# EAGLE library part MODUL_TYPE_A (library isysbus_modulsystem)
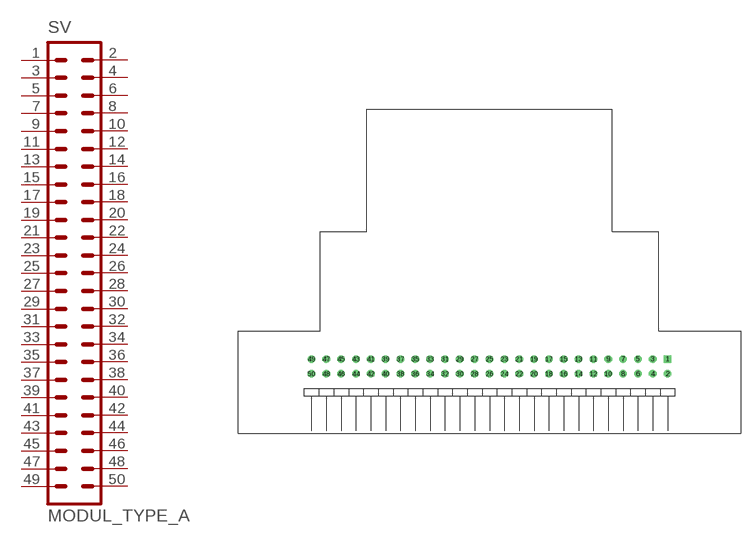
[diagram p1: symbol with the pads of MODUL_TYPE_A; footprint MODUL_TYPE_A]

Designator prefix SV

## MODUL_TYPE_A  [MODUL_TYPE_A]
1  1  pas
2  2  pas
3  3  pas
4  4  pas
5  5  pas
6  6  pas
7  7  pas
8  8  pas
9  9  pas
10  10  pas
11  11  pas
12  12  pas
13  13  pas
14  14  pas
15  15  pas
16  16  pas
17  17  pas
18  18  pas
19  19  pas
20  20  pas
21  21  pas
22  22  pas
23  23  pas
24  24  pas
25  25  pas
26  26  pas
27  27  pas
28  28  pas
29  29  pas
30  30  pas
31  31  pas
32  32  pas
33  33  pas
34  34  pas
35  35  pas
36  36  pas
37  37  pas
38  38  pas
39  39  pas
40  40  pas
41  41  pas
42  42  pas
43  43  pas
44  44  pas
45  45  pas
46  46  pas
47  47  pas
48  48  pas
49  49  pas
50  50  pas

## Footprint MODUL_TYPE_A (pad centres in mm)
drill 0.8 square: 1 30.48,12.7
drill 0.8 round: 2 30.48,10.16; 3 27.94,12.7; 4 27.94,10.16; 5 25.4,12.7; 6 25.4,10.16; 7 22.86,12.7; 8 22.86,10.16; 9 20.32,12.7; 10 20.32,10.16; 11 17.78,12.7; 12 17.78,10.16; 13 15.24,12.7; 14 15.24,10.16; 15 12.7,12.7; 16 12.7,10.16; 17 10.16,12.7; 18 10.16,10.16; 19 7.62,12.7; 20 7.62,10.16; 21 5.08,12.7; 22 5.08,10.16; 23 2.54,12.7; 24 2.54,10.16; 25 0,12.7; 26 0,10.16; 27 -2.54,12.7; 28 -2.54,10.16; 29 -5.08,12.7; 30 -5.08,10.16; 31 -7.62,12.7; 32 -7.62,10.16; 33 -10.16,12.7; 34 -10.16,10.16; 35 -12.7,12.7; 36 -12.7,10.16; 37 -15.24,12.7; 38 -15.24,10.16; 39 -17.78,12.7; 40 -17.78,10.16; 41 -20.32,12.7; 42 -20.32,10.16; 43 -22.86,12.7; 44 -22.86,10.16; 45 -25.4,12.7; 46 -25.4,10.16; 47 -27.94,12.7; 48 -27.94,10.16; 49 -30.48,12.7; 50 -30.48,10.16